# Altium schematic symbol library Components - 18.03.20 - 09.23.SchLib: 1 symbol
Pins are listed as number, name and electrical type; pins without a type are passive.

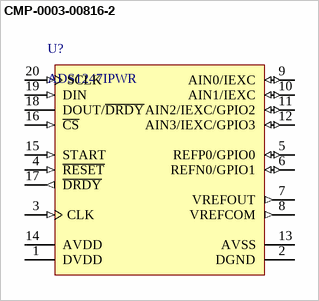
[diagram p0: symbol CMP-0003-00816-2]

## CMP-0003-00816-2
designator U?, comment ADS1247IPWR
Low Noise, Precision 24-Bit ADC, -40 to 105 degC, 20-pin SOP (PW20), Green (RoHS & no Sb/Br); Manufacturer: Texas Instruments; Interface: Serial SPI; Analog Voltage AV/DD(Max)(V): 5.25; SubFamily: Precision ADC (<=10MSPS); Resolution(Bits): 24; Architecture: Delta-Sigma; Digital Supply(Min)(V): 2.7; # Input Channels: 3; Sample Rate (max)(SPS): 2k; PartNumber: ADS1247IPWR; ComponentLink3Description: Package Specification; ComponentLink1URL: http://www.ti.com/; Eco-Plan: Green (RoHS & no Sb/Br); PackageDescription: 20-Pin Plastic Small Outline, Body 6.5 x 4.4 mm, Pitch 0.65 mm; ComponentLink2Description: Datasheet; PackageVersion: 4040064-5/G, 02/2011; Mounting Technology: Surface Mount; PackageReference: PW20; ComponentLink1Description: Manufacturer URL; Code_JEDEC: MO-153; Digital Supply(Max)(V): 5.25; ComponentLink3URL: http://www.ti.com.cn/cn/lit/ml/mpds362/mpds362.pdf; DatasheetVersion: SBAS426G; ComponentLink2URL: http://www.ti.com/general/docs/lit/getliterature.tsp?genericPartNumber=ADS1247&fileType=pdf; Analog Voltage AV/DD(Min)(V): 2.7
footprint TI-PW20_N (SOP, 20-Leads, Body 6.5x4.4mm, Pitch 0.65mm, IPC Medium Density)
footprint TI-PW20_M (SOP, 20-Leads, Body 6.5x4.4mm, Pitch 0.65mm, IPC Low Density)
footprint TI-PW20_L (SOP, 20-Leads, Body 6.5x4.4mm, Pitch 0.65mm, IPC High Density)
pins: 1 DVDD (power) "Digital power supply", 2 DGND (power) "Digital ground", 3 CLK (in) "External clock input. Tie this pin to DGND to activate the internal oscillator.", 4 ~{RESET} (in) "Chip reset (active low). Returns all register values to reset values.", 5 REFP0/GPIO0 (io), 6 REFN0/GPIO1 (io), 7 VREFOUT (out) "Positive internal reference voltage output", 8 VREFCOM (out) "Negative internal reference voltage output. Connect this pin to AVSS when using a unipolar supply, or to the midvoltage of the power supply when using a bipolar supply.", 9 AIN0/IEXC (io), 10 AIN1/IEXC (io), 11 AIN2/IEXC/GPIO2 (io), 12 AIN3/IEXC/GPIO3 (io), 13 AVSS (power) "Negative analog power supply", 14 AVDD (power) "Positive analog power supply", 15 START (in) "Conversion start. See text for description of use.", 16 ~{CS} (in) "Chip select (active low)", 17 ~{DRDY} (out) "Data ready (active low)", 18 DOUT/~{DRDY} (hiz), 19 DIN (in) "Serial data input", 20 SCLK (in) "Serial clock input"